# EAGLE library part WURTH_ELEKTRONIK_ELECTROMECHANIC_BOARD_TO_BOARD_CONNECTORS_REV16C_61301411121 (library rn2xx3)
WR-PHD 2.54mm Pin Header, 14 Pins =>Code : Con_BTB_PHD_2.54_1_THT_61301411121 <http://katalog.we-online.de/media/images/eican/Con_BTB_PHD_2.54_1_THT_6130xx11121_pf2.jpg> Details see: http://katalog.we-online.de/en/em/613_0xx_111_21 Created 2014-05-29, Karrer Zheng 2014 (C) Würth Elektronik
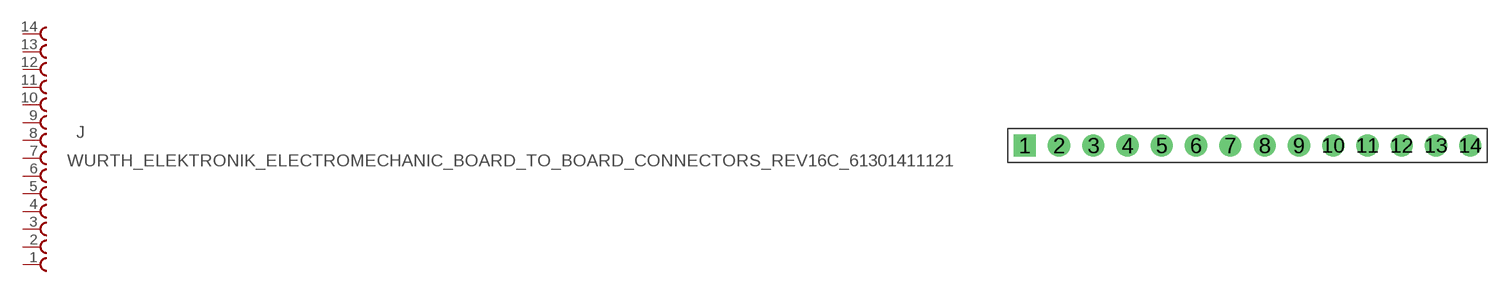
[diagram p2: symbol with the pads of WURTH_ELEKTRONIK_ELECTROMECHANIC_BOARD_TO_BOARD_CONNECTORS_REV16C_61301411121; footprint WURTH_ELEKTRONIK_ELECTROMECHANIC_BOARD_TO_BOARD_CONNECTORS_REV16C_61301411121]

Designator prefix J

## WURTH_ELEKTRONIK_ELECTROMECHANIC_BOARD_TO_BOARD_CONNECTORS_REV16C_61301411121  [WURTH_ELEKTRONIK_ELECTROMECHANIC_BOARD_TO_BOARD_CONNECTORS_REV16C_61301411121]
1  14  pas
2  13  pas
3  12  pas
4  11  pas
5  10  pas
6  9  pas
7  8  pas
8  7  pas
9  6  pas
10  5  pas
11  4  pas
12  3  pas
13  2  pas
14  1  pas

## Footprint WURTH_ELEKTRONIK_ELECTROMECHANIC_BOARD_TO_BOARD_CONNECTORS_REV16C_61301411121 (pad centres in mm)
WR-PHD 2.54mm Pin Header, 14 Pins
drill 1.1 square: 1 -16.51,0
drill 1.1: 2 -13.97,0; 3 -11.43,0; 4 -8.89,0; 5 -6.35,0; 6 -3.81,0; 7 -1.27,0; 8 1.27,0; 9 3.81,0; 10 6.35,0; 11 8.89,0; 12 11.43,0; 13 13.97,0; 14 16.51,0